# EAGLE library part PINHD-2X30-2.54X1.27 (library kaibader)
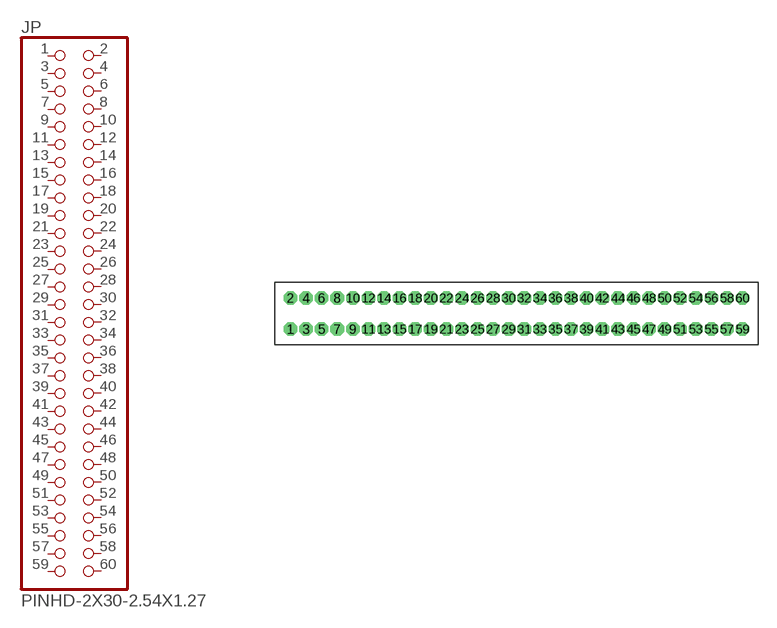
[diagram p6: symbol with the pads of PINHD-2X30-2.54X1.27; footprint PINHD-2X30-2.54X1.27]

Designator prefix JP

## PINHD-2X30-2.54X1.27  [PINHD-2X30-2.54X1.27]
1  1  pas
2  2  pas
3  3  pas
4  4  pas
5  5  pas
6  6  pas
7  7  pas
8  8  pas
9  9  pas
10  10  pas
11  11  pas
12  12  pas
13  13  pas
14  14  pas
15  15  pas
16  16  pas
17  17  pas
18  18  pas
19  19  pas
20  20  pas
21  21  pas
22  22  pas
23  23  pas
24  24  pas
25  25  pas
26  26  pas
27  27  pas
28  28  pas
29  29  pas
30  30  pas
31  31  pas
32  32  pas
33  33  pas
34  34  pas
35  35  pas
36  36  pas
37  37  pas
38  38  pas
39  39  pas
40  40  pas
41  41  pas
42  42  pas
43  43  pas
44  44  pas
45  45  pas
46  46  pas
47  47  pas
48  48  pas
49  49  pas
50  50  pas
51  51  pas
52  52  pas
53  53  pas
54  54  pas
55  55  pas
56  56  pas
57  57  pas
58  58  pas
59  59  pas
60  60  pas

## Footprint PINHD-2X30-2.54X1.27 (pad centres in mm)
PIN HEADER
drill 0.6 pad 0.914 octagon: 1 -17.78,-1.27; 2 -17.78,1.27; 3 -16.51,-1.27; 4 -16.51,1.27; 5 -15.24,-1.27; 6 -15.24,1.27; 7 -13.97,-1.27; 8 -13.97,1.27; 9 -12.7,-1.27; 10 -12.7,1.27; 11 -11.43,-1.27; 12 -11.43,1.27; 13 -10.16,-1.27; 14 -10.16,1.27; 15 -8.89,-1.27; 16 -8.89,1.27; 17 -7.62,-1.27; 18 -7.62,1.27; 19 -6.35,-1.27; 20 -6.35,1.27; 21 -5.08,-1.27; 22 -5.08,1.27; 23 -3.81,-1.27; 24 -3.81,1.27; 25 -2.54,-1.27; 26 -2.54,1.27; 27 -1.27,-1.27; 28 -1.27,1.27; 29 0,-1.27; 30 0,1.27; 31 1.27,-1.27; 32 1.27,1.27; 33 2.54,-1.27; 34 2.54,1.27; 35 3.81,-1.27; 36 3.81,1.27; 37 5.08,-1.27; 38 5.08,1.27; 39 6.35,-1.27; 40 6.35,1.27; 41 7.62,-1.27; 42 7.62,1.27; 43 8.89,-1.27; 44 8.89,1.27; 45 10.16,-1.27; 46 10.16,1.27; 47 11.43,-1.27; 48 11.43,1.27; 49 12.7,-1.27; 50 12.7,1.27; 51 13.97,-1.27; 52 13.97,1.27; 53 15.24,-1.27; 54 15.24,1.27; 55 16.51,-1.27; 56 16.51,1.27; 57 17.78,-1.27; 58 17.78,1.27; 59 19.05,-1.27; 60 19.05,1.27